# Altium schematic symbol library LC709203FQH-01TWG.SchLib: 1 symbol
Pins are listed as number, name and electrical type; pins without a type are passive.

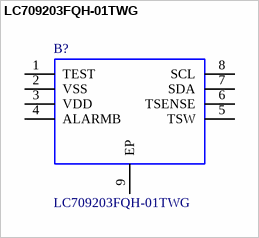
[diagram p0: symbol LC709203FQH-01TWG]

## LC709203FQH-01TWG
designator B?
DFN-8-EP(3x4) Battery Management ICs ROHS; Manufacturer: onsemi; Mfr.Part #: LC709203FQH-01TWG; Packaging: Tape & Reel (TR); Datasheet: https://datasheet.lcsc.com/lcsc/1809111522_onsemi-LC709203FQH-01TWG_C152311.pdf; Package: DFN-8-EP(3x4); LCSC Part#: C152311
footprint SON65P400X300X80-9N
pins: 1 TEST, 2 VSS, 3 VDD, 4 ALARMB, 5 TSW, 6 TSENSE, 7 SDA, 8 SCL, 9 EP